# EAGLE library part TPS61029 (library microbuilder)
TPS61029 - Boost Converter Input: 0.9-6.5V Quiescent Current: 25uA (Typ.) TPS61029DRCT = 1.8-5.5V Output TPS61027DRCR = 5.0V Output
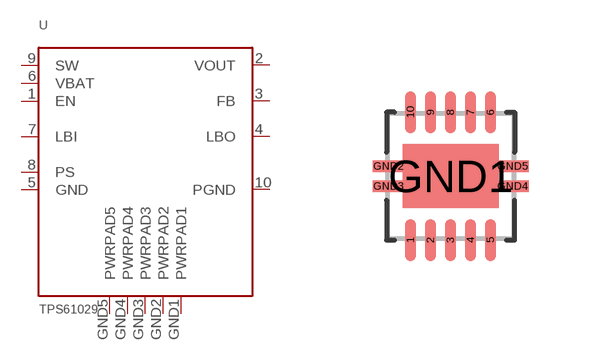
[diagram p115: symbol with the pads of TPS61029; footprint TPS61029]

Designator prefix U

## TPS61029  [TPS61029]
1  EN
2  VOUT
3  FB
4  LBO
5  GND
6  VBAT
7  LBI
8  PS
9  SW
10  PGND
GND1  PWRPAD1
GND2  PWRPAD2
GND3  PWRPAD3
GND4  PWRPAD4
GND5  PWRPAD5

## Footprint TPS61029 (pad centres in mm)
smd 0.28 x 1.05: 1 -1,-1.6; 2 -0.5,-1.6; 3 0,-1.6; 4 0.5,-1.6; 5 1,-1.6; 6 1,1.6; 7 0.5,1.6; 8 0,1.6; 9 -0.5,1.6; 10 -1,1.6
smd 2.4 x 1.6: GND1 0,0
smd 0.8 x 0.28: GND2 -1.55,0.25; GND3 -1.55,-0.25; GND4 1.55,-0.25; GND5 1.55,0.25